# EAGLE library part CREE-XLAMP-XM-L (library SKAARHOJ)
Cree® XLamp® XM-L LEDs Source: http://www.cree.com
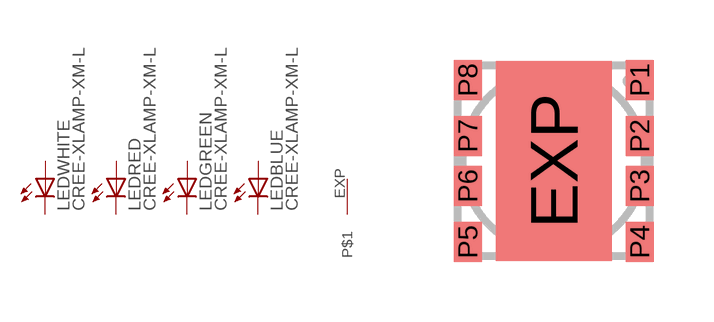
[diagram p44: symbol with the pads of CREE-XLAMP-XM-L; footprint CREE-XLAMP-XM-L]

Designator prefix LED; gates WHITE=LED-1 RED=LED-1 GREEN=LED-1 BLUE=LED-1 G$1=GNDPIN

## CREE-XLAMP-XM-L  [CREE-XLAMP-XM-L]
EXP  G$1:P$1  pwr
P1  RED:A  pas
P2  GREEN:A  pas
P3  BLUE:A  pas
P4  WHITE:A  pas
P5  WHITE:C  pas
P6  BLUE:C  pas
P7  GREEN:C  pas
P8  RED:C  pas

## Footprint CREE-XLAMP-XM-L (pad centres in mm)
Cree® XLamp® XM-L LEDs Source: http://www.cree.com
smd 2.9 x 5: EXP 0,0
smd 0.7 x 1: P1 2.15,2.027; P2 2.15,0.627; P3 2.15,-0.627; P4 2.15,-2.027; P5 -2.15,-2.027; P6 -2.15,-0.627; P7 -2.15,0.627; P8 -2.15,2.027